# Altium schematic symbol library ft220xq.SchLib: 1 symbol
Pins are listed as number, name and electrical type; pins without a type are passive.

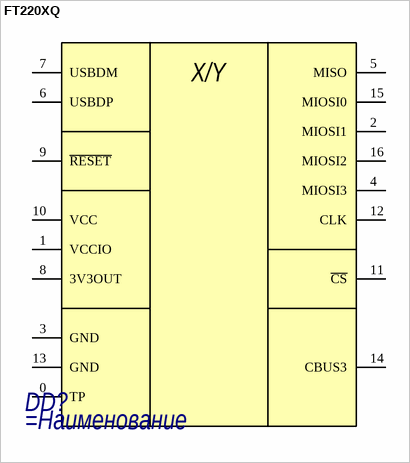
[diagram p0: symbol FT220XQ]

## FT220XQ
designator DD?
=Описание
pins: 0 TP, 1 VCCIO, 2 MIOSI1, 3 GND, 4 MIOSI3, 5 MISO, 6 USBDP, 7 USBDM, 8 3V3OUT, 9 ~{RESET}, 10 VCC, 11 ~{CS}, 12 CLK, 13 GND, 14 CBUS3, 15 MIOSI0, 16 MIOSI2
text: X/Y